# EAGLE library part CONNECTOR_D-SUB_D25S24A4GV00LF (library citizen-scientist-v3)
D-SUB, 25POS, RCPT, VERT SLDR Datasheet <https://cdn.amphenol-icc.com/media/wysiwyg/files/documentation/datasheet/inputoutput/io_dsub_d8656.pdf> Drawing <https://cdn.amphenol-icc.com/media/wysiwyg/files/drawing/c01-8646-0815.pdf>
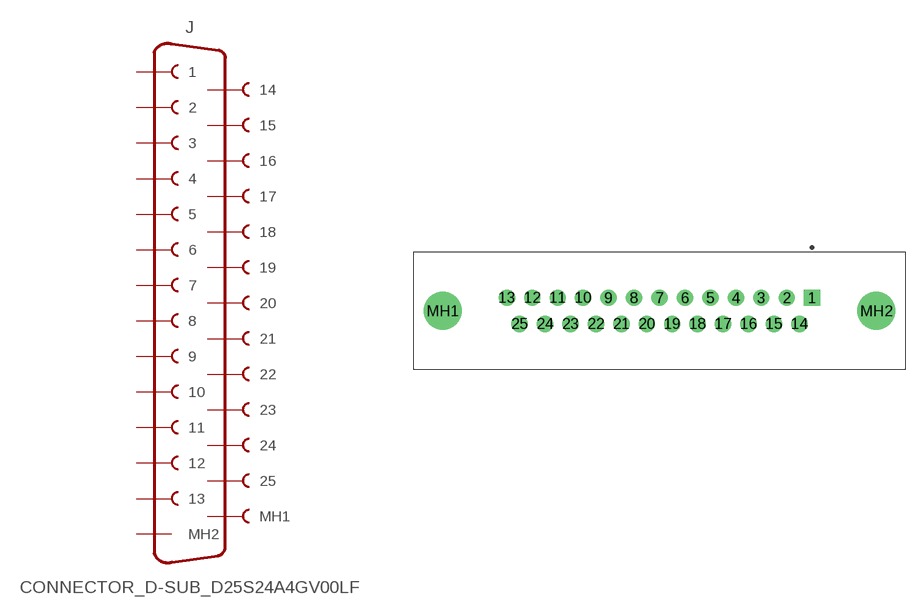
[diagram p0: symbol with the pads of CONNECTOR_D-SUB_D25S24A4GV00LF; footprint CONNECTOR_D-SUB_D25S24A4GV00LF]

Designator prefix J

## CONNECTOR_D-SUB_D25S24A4GV00LF (CATEGORY: Connector; DESCRIPTION: 25 Position D-Sub Receptacle, Female Sockets Connector; GENDER: Female; MANUFACTURER: amphenol-icc; MPN: D25S24A4GV00LF; OPERATING_TEMP: -55°C to +125°C; PART_STATUS: Active; ROHS_COMPLIANT: EU RoHS With Exemption 6c; SERIES: DELTA D; SUB-CATEGORY: D-SUB; TYPE: Vertical)  [CONNECTOR_D-SUB_D25S24A4GV00LF]
1  1  pas
2  2  pas
3  3  pas
4  4  pas
5  5  pas
6  6  pas
7  7  pas
8  8  pas
9  9  pas
10  10  pas
11  11  pas
12  12  pas
13  13  pas
14  14  pas
15  15  pas
16  16  pas
17  17  pas
18  18  pas
19  19  pas
20  20  pas
21  21  pas
22  22  pas
23  23  pas
24  24  pas
25  25  pas
MH1  MH1  sup
MH2  MH2  sup

## Footprint CONNECTOR_D-SUB_D25S24A4GV00LF (pad centres in mm)
drill 0.9 pad 1.778 square: 1 0,0
drill 0.9 pad 1.778: 2 -2.76,0; 3 -5.52,0; 4 -8.28,0; 5 -11.04,0; 6 -13.8,0; 7 -16.56,0; 8 -19.32,0; 9 -22.08,0; 10 -24.84,0; 11 -27.6,0; 12 -30.36,0; 13 -33.12,0; 14 -1.38,-2.84; 15 -4.14,-2.84; 16 -6.9,-2.84; 17 -9.66,-2.84; 18 -12.42,-2.84; 19 -15.18,-2.84; 20 -17.94,-2.84; 21 -20.7,-2.84; 22 -23.46,-2.84; 23 -26.22,-2.84; 24 -28.98,-2.84; 25 -31.74,-2.84
drill 3.1: MH1 -40.08,-1.42; MH2 6.96,-1.42